# Altium schematic symbol library CON8.SchLib: 1 symbol
Pins are listed as number, name and electrical type; pins without a type are passive.

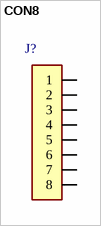
[diagram p0: symbol CON8]

## CON8
designator J?, comment 292230-8  (value not drawn)
ID: 292230-8; PDF: http://www.te.com/commerce/DocumentDelivery/DDEController?Action=srchrtrv&DocNm=292230&DocType=Customer+Drawing&DocLang=English; PRICE: 0.85000; BUY_LINK: http://www.digikey.com/product-detail/en/292230-8/A98713CT-ND/1855507
footprint 8PIN
pins: 1, 2, 3, 4, 5, 6, 7, 8